# EAGLE library part DAC124S085CIMM (library DAC24S085CIMM)
DAC24S084CIMM 4 output 12bit DAC Datasheet: http://www.ti.com/lit/ds/symlink/dac124s085.pdf
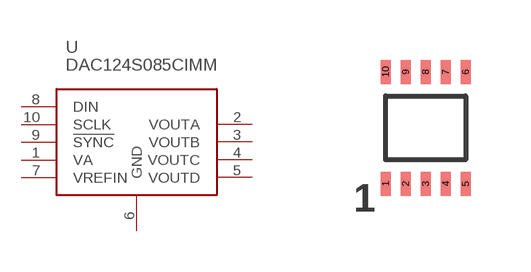
[diagram p0: symbol with the pads of 10-TFSOP; footprint 10-TFSOP]

Designator prefix U

## DAC124S085CIMM  [10-TFSOP]
1  VA
2  VOUTA
3  VOUTB
4  VOUTC
5  VOUTD
6  GND
7  VREFIN
8  DIN
9  !SYNC
10  SCLK

## Footprint 10-TFSOP (pad centres in mm)
10-TFSOP - 3MM WIDTH
smd 0.25 x 0.6: 1 -1,-1.4; 2 -0.5,-1.4; 3 0,-1.4; 4 0.5,-1.4; 5 1,-1.4; 6 1,1.4; 7 0.5,1.4; 8 0,1.4; 9 -0.5,1.4; 10 -1,1.4